# Altium footprint library Small Outline Diode - 2 Flat Leads.PcbLib: 9 footprints
Each footprint in its own frame and in the unit in brackets; x right, y up, seen from the top. Pads: shape width x height; smd on the part's side, far side on the other; paste and mask are expansions set on the pad; w line width, h text height; cw(c..) or ccw(c..) is an arc to the next point about the centre after c.
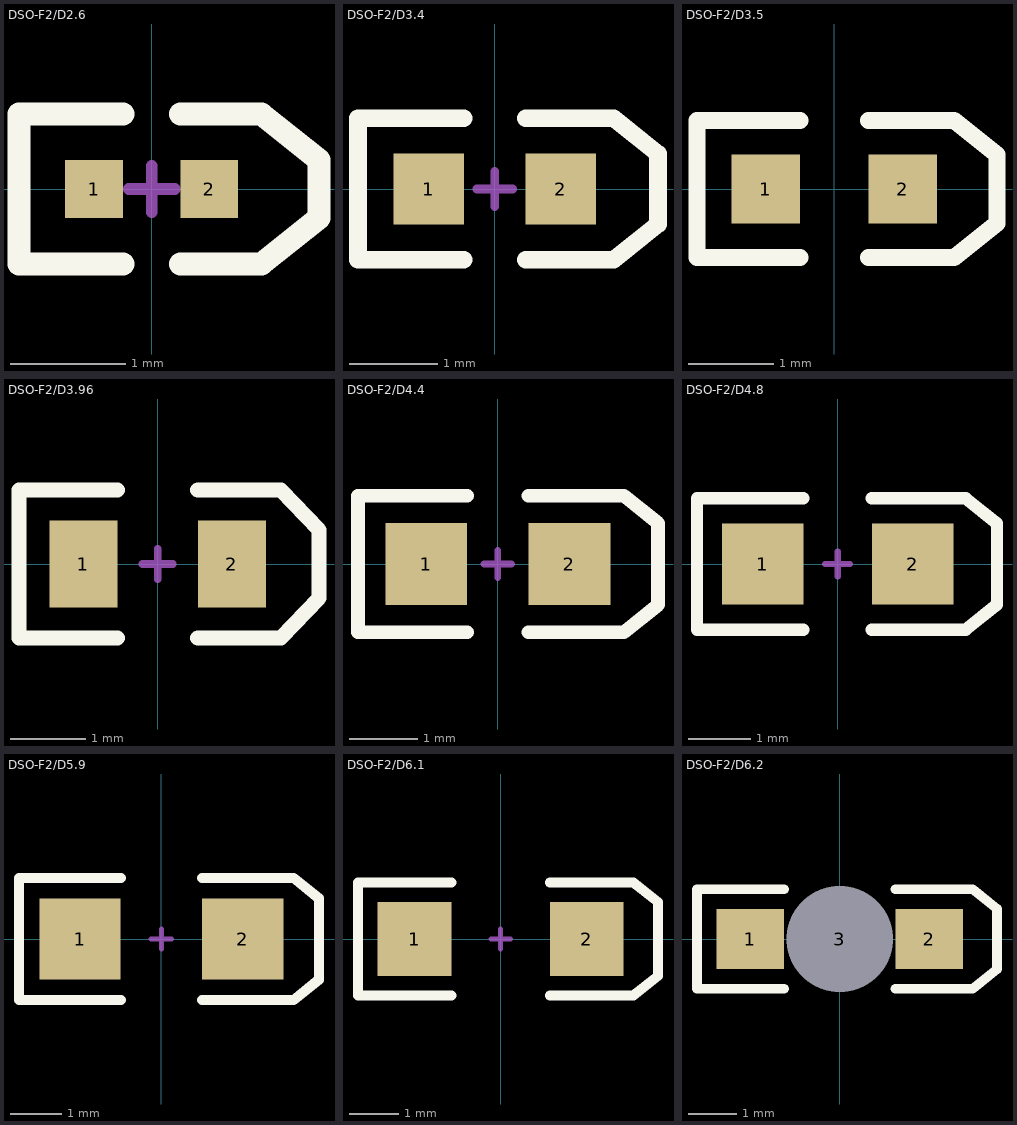
[diagram p0: the footprints below, top view; thin cyan lines are the x and y axes]

## DSO-F2/D2.6 [mm] "SMT LED; 2 Flat Leads"
pads (2):
  rect 0.5x0.5 smd: 1(-0.5,0) 2(0.5,0)
Top Overlay:
  lines w0.2: -0.25,-0.65 -1.15,-0.65 -1.15,0.65 -0.25,0.65 ; 0.25,-0.65 0.95,-0.65 1.45,-0.25 1.45,0.25 0.95,0.65 0.25,0.65
Mechanical 1:
  lines w0.1: -0.2,0 0.2,0 ; 0,-0.2 0,0.2

## DSO-F2/D3.4 [mm] "SMT LED; 2 Flat Leads"
pads (2):
  rect 0.8x0.8 smd: 1(-0.75,0) 2(0.75,0)
Top Overlay:
  lines w0.2: -0.35,-0.8 -1.55,-0.8 -1.55,0.8 -0.35,0.8 ; 0.35,-0.8 1.35,-0.8 1.85,-0.4 1.85,0.4 1.35,0.8 0.35,0.8
Mechanical 1:
  lines w0.1: -0.2,0 0.2,0 ; 0,-0.2 0,0.2

## DSO-F2/D3.5 [mm] "SMT LED; 2 Flat Leads"
pads (2):
  rect 0.8x0.8 smd: 1(-0.8,0) 2(0.8,0)
Top Overlay:
  lines w0.2: -0.4,-0.8 -1.6,-0.8 -1.6,0.8 -0.4,0.8 ; 0.4,-0.8 1.4,-0.8 1.9,-0.4 1.9,0.4 1.4,0.8 0.4,0.8

## DSO-F2/D3.96 [mm] "SMT LED; 2 Flat Leads"
pads (2):
  rect 0.9x1.15 smd: 1(-0.98,0) 2(0.98,0)
Top Overlay:
  lines w0.2: -0.53,-0.975 -1.83,-0.975 -1.83,0.975 -0.53,0.975 ; 0.53,-0.975 1.63,-0.975 2.13,-0.45 2.13,0.45 1.63,0.975 0.53,0.975
Mechanical 1:
  lines w0.1: -0.2,0 0.2,0 ; 0,-0.2 0,0.2

## DSO-F2/D4.4 [mm] "SMT LED; 2 Flat Leads"
pads (2):
  rect 1.2x1.2 smd: 1(-1.05,0) 2(1.05,0)
Top Overlay:
  lines w0.2: -0.45,-1 -2.05,-1 -2.05,1 -0.45,1 ; 0.45,-1 1.85,-1 2.35,-0.6 2.35,0.6 1.85,1 0.45,1
Mechanical 1:
  lines w0.1: -0.2,0 0.2,0 ; 0,-0.2 0,0.2

## DSO-F2/D4.8 [mm] "SMT LED; 2 Flat Leads"
pads (2):
  rect 1.3x1.3 smd: 1(-1.2,0) 2(1.2,0)
Top Overlay:
  lines w0.2: -0.55,-1.05 -2.25,-1.05 -2.25,1.05 -0.55,1.05 ; 0.55,-1.05 2.05,-1.05 2.55,-0.65 2.55,0.65 2.05,1.05 0.55,1.05
Mechanical 1:
  lines w0.1: -0.2,0 0.2,0 ; 0,-0.2 0,0.2

## DSO-F2/D5.9 [mm] "SMT LED; 2 Flat Leads"
pads (2):
  rect 1.6x1.6 smd: 1(-1.6,0) 2(1.6,0)
Top Overlay:
  lines w0.2: -2.8,-1.2 -0.8,-1.2 ; -2.8,-1.15 -2.8,1.15 ; -2.8,1.2 -0.8,1.2 ; 0.8,-1.2 2.6,-1.2 3.1,-0.8 3.1,0.8 2.6,1.2 0.8,1.2
Mechanical 1:
  lines w0.1: -0.2,0 0.2,0 ; 0,-0.2 0,0.2

## DSO-F2/D6.1 [mm] "SMT LED; 2 Flat Leads"
pads (2):
  rect 1.5x1.5 smd: 1(-1.75,0) 2(1.75,0)
Top Overlay:
  lines w0.2: -1,-1.15 -2.9,-1.15 -2.9,1.15 -1,1.15 ; 1,-1.15 2.7,-1.15 3.2,-0.75 3.2,0.75 2.7,1.15 1,1.15
Mechanical 1:
  lines w0.1: -0.2,0 0.2,0 ; 0,-0.2 0,0.2

## DSO-F2/D6.2 [mm] "SMT Reverse Mount LED; 2 Flat Leads"
pads (3):
  rect 1.4x1.25 smd: 1(-1.85,0) 2(1.85,0)
  round 1.9 hole 2.2: 3(0,0)
Top Overlay:
  lines w0.2: -1.15,-1.025 -2.95,-1.025 -2.95,1.025 -1.15,1.025 ; 1.15,-1.025 2.75,-1.025 3.25,-0.625 3.25,0.625 2.75,1.025 1.15,1.025